# Altium footprint library 接插件.PcbLib: 91 footprints (part 4 of 6)
Each footprint in its own frame and in the unit in brackets; x right, y up, seen from the top. Pads: shape width x height; smd on the part's side, far side on the other; paste and mask are expansions set on the pad; w line width, h text height; cw(c..) or ccw(c..) is an arc to the next point about the centre after c.
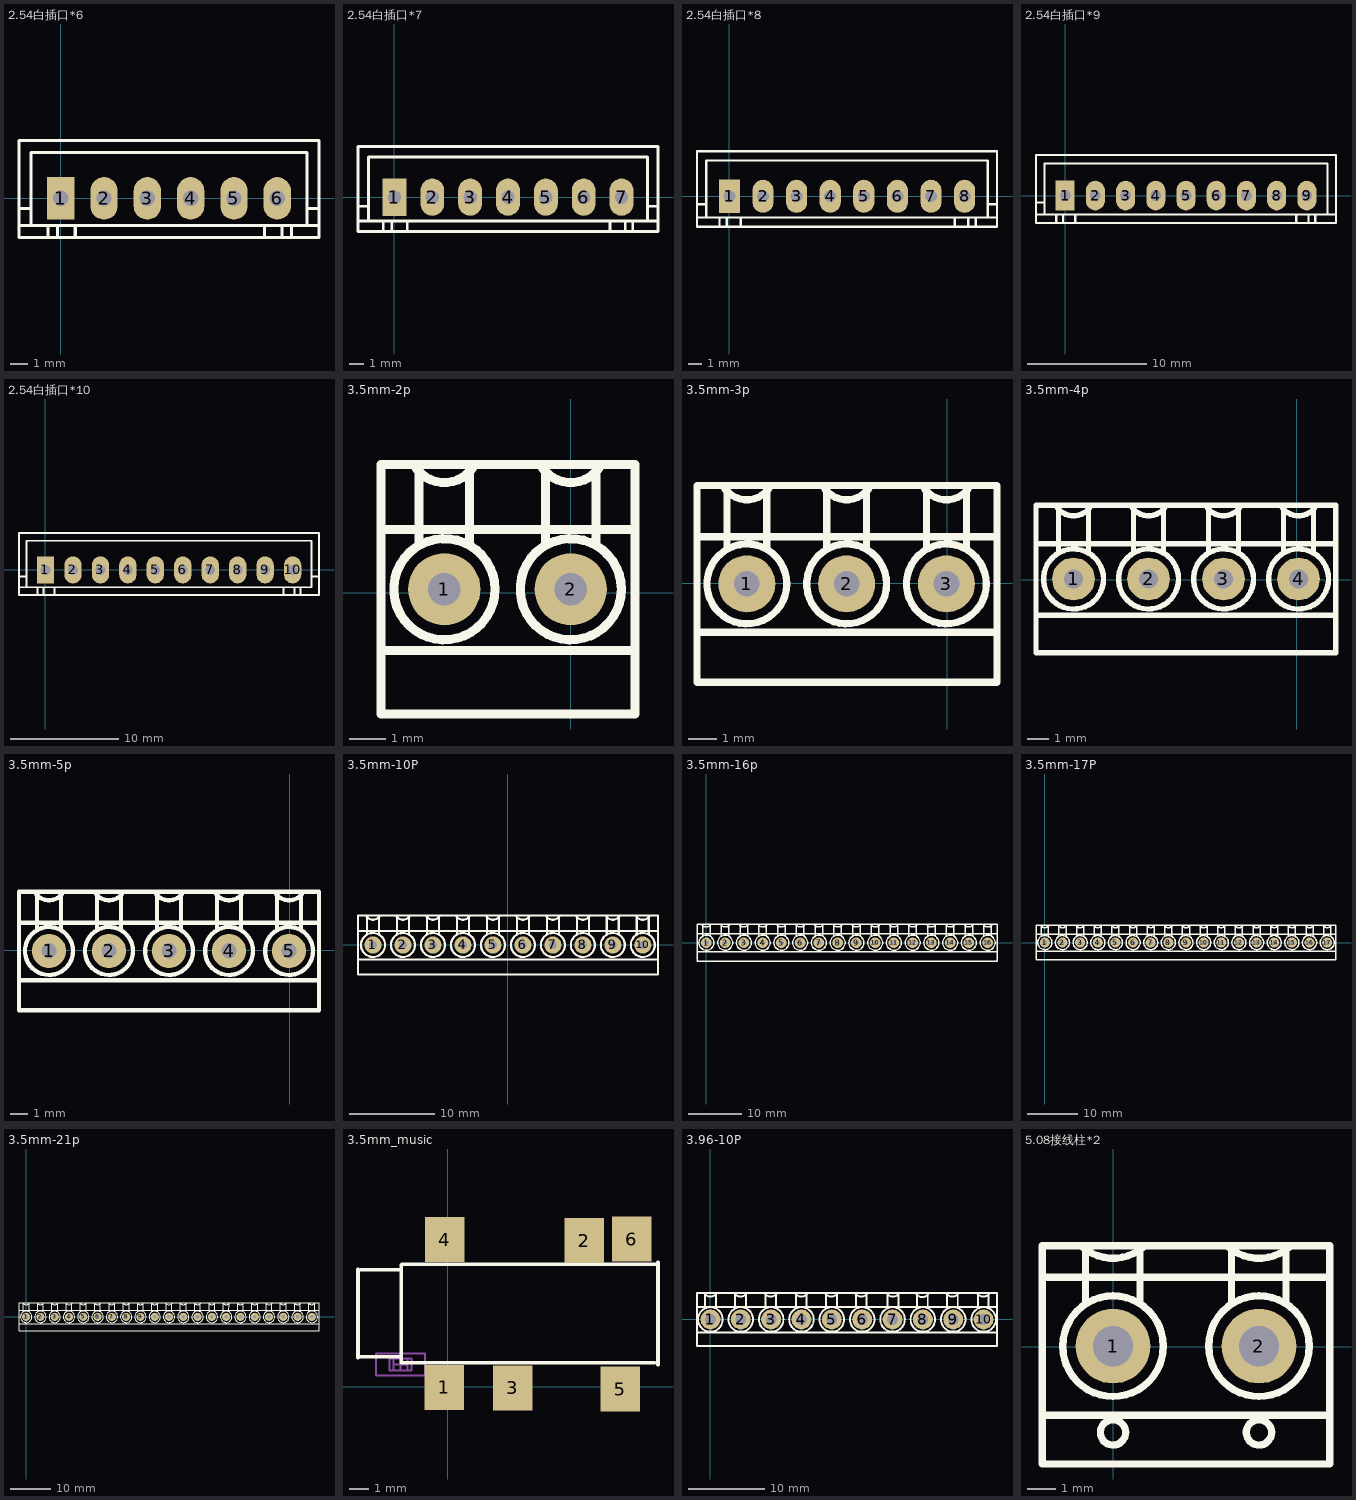
[diagram p3: the footprints below, top view; thin cyan lines are the x and y axes]

## 2.54白插口*6 [mm]
pads (6):
  rect 1.6x2.5 hole 0.9: 1(0,0)
  oval 1.6x2.5 hole 0.9: 2(2.54,0) 3(5.08,0) 4(7.62,0) 5(10.16,0) 6(12.7,0)
Top Overlay:
  lines w0.178: -2.45,-1.6 -1.75,-1.6 ; -2.45,-0.6 -1.75,-0.6 ; -2.45,3.4 -2.45,-2.3 15.15,-2.3 15.15,3.4 -2.44,3.4 ; -0.75,-2.3 -0.75,-1.6 ; -0.19,-2.29 -0.19,-1.6 ; 0.85,-2.3 0.85,-1.6 ; 11.95,-2.3 11.95,-1.6 ; 12.98,-2.3 12.98,-1.6 ; 13.55,-2.3 13.55,-1.6 ; 14.45,-0.6 15.15,-0.6 ; 15.15,-1.6 14.45,-1.6 ; -1.75,-1.6 -1.75,2.7 14.45,2.7 14.45,-1.6 ; -1.75,-1.6 14.45,-1.6

## 2.54白插口*7 [mm]
pads (7):
  rect 1.6x2.5 hole 0.9: 1(0,0)
  oval 1.6x2.5 hole 0.9: 2(2.54,0) 3(5.08,0) 4(7.62,0) 5(10.16,0) 6(12.7,0) 7(15.24,0)
Top Overlay:
  lines w0.178: -2.45,-1.6 -1.75,-1.6 ; -2.45,-0.6 -1.75,-0.6 ; -2.45,3.4 -2.45,-2.3 17.69,-2.3 17.69,3.4 -2.44,3.4 ; -0.75,-2.3 -0.75,-1.6 ; -0.19,-2.29 -0.19,-1.6 ; 0.85,-2.3 0.85,-1.6 ; 14.47,-2.3 14.47,-1.6 ; 15.49,-2.3 15.49,-1.6 ; 16,-2.3 16,-1.6 ; 16.98,-1.6 17.68,-1.6 ; 16.99,-0.6 17.69,-0.6 ; -1.75,-1.6 16.99,-1.6 16.99,2.7 -1.75,2.7 -1.75,-1.6

## 2.54白插口*8 [mm]
pads (8):
  rect 1.6x2.5 hole 0.9: 1(0,0)
  oval 1.6x2.5 hole 0.9: 2(2.54,0) 3(5.08,0) 4(7.62,0) 5(10.16,0) 6(12.7,0) 7(15.24,0) 8(17.78,0)
Top Overlay:
  lines w0.178: -2.45,-1.6 -1.75,-1.6 ; -2.45,-0.6 -1.75,-0.6 ; -2.45,3.4 -2.45,-2.3 20.23,-2.3 20.23,3.4 -2.44,3.4 ; -0.75,-2.3 -0.75,-1.6 ; -0.19,-2.29 -0.19,-1.6 ; 0.85,-2.3 0.85,-1.6 ; 17.03,-2.3 17.03,-1.6 ; 18.06,-2.3 18.06,-1.6 ; 18.63,-2.3 18.63,-1.6 ; 19.53,-0.6 20.23,-0.6 ; 20.23,-1.6 19.53,-1.6 ; -1.75,-1.6 19.53,-1.6 ; -1.75,-1.6 -1.75,2.7 19.53,2.7 19.53,-1.6

## 2.54白插口*9 [mm]
pads (9):
  rect 1.6x2.5 hole 0.9: 1(0,0)
  oval 1.6x2.5 hole 0.9: 2(2.54,0) 3(5.08,0) 4(7.62,0) 5(10.16,0) 6(12.7,0) 7(15.24,0) 8(17.78,0) 9(20.32,0)
Top Overlay:
  lines w0.178: -2.45,-1.6 -1.75,-1.6 ; -2.45,-0.6 -1.75,-0.6 ; -2.45,3.4 -2.45,-2.3 22.77,-2.3 22.77,3.4 -2.44,3.4 ; -0.75,-2.3 -0.75,-1.6 ; -0.19,-2.29 -0.19,-1.6 ; 0.85,-2.3 0.85,-1.6 ; 19.43,-2.3 19.43,-1.6 ; 20.46,-2.3 20.46,-1.6 ; 21.03,-2.3 21.03,-1.6 ; 22.07,-1.6 22.07,2.7 -1.75,2.7 -1.75,-1.6 ; 22.77,-1.6 19.53,-1.6 -1.75,-1.6

## 2.54白插口*10 [mm]
pads (10):
  rect 1.6x2.5 hole 0.9: 1(0,0)
  oval 1.6x2.5 hole 0.9: 2(2.54,0) 3(5.08,0) 4(7.62,0) 5(10.16,0) 6(12.7,0) 7(15.24,0) 8(17.78,0) 9(20.32,0) 10(22.86,0)
Top Overlay:
  lines w0.178: -2.45,-1.6 -1.75,-1.6 ; -2.45,-0.6 -1.75,-0.6 ; -2.45,3.4 -2.45,-2.3 25.3,-2.3 25.3,3.4 -2.44,3.4 ; -0.75,-2.3 -0.75,-1.6 ; -0.19,-2.29 -0.19,-1.6 ; 0.85,-2.3 0.85,-1.6 ; 22,-2.3 22,-1.6 ; 23.03,-2.3 23.03,-1.6 ; 23.6,-2.3 23.6,-1.6 ; 24.6,-0.6 25.3,-0.6 ; -1.75,-1.6 -1.75,2.7 24.6,2.7 24.6,-1.6 -1.75,-1.6

## 3.5mm-2p [mm]
pads (2):
  round 2 hole 0.9: 1(-3.505,0.102) 2(-0.005,0.102)
Top Overlay:
  circle w0.254: c-0.005,0.102 r1.4
  circle w0.254: c-3.505,0.102 r1.4
  circle w0.254: c-0.005,0.102 r1.4
  lines w0.254: -5.255,-1.598 1.769,-1.598 ; -5.255,1.752 1.727,1.752 ; -4.333,3.536 ccw(c-3.505,4.002) -2.677,3.536 ; -4.205,1.352 -4.205,3.552 ; -2.805,1.352 -2.805,3.552 ; 1.769,-3.353 1.769,3.547 ; 1.769,-3.348 -5.255,-3.348 -5.255,3.552 1.769,3.552 ; -0.833,3.536 ccw(c-0.005,4.002) 0.823,3.536 cw(c-0.005,4.002) -0.833,3.536 ; -0.705,1.352 -0.705,3.552 -0.705,1.352 ; 0.695,1.352 0.695,3.552 0.695,1.352

## 3.5mm-3p [mm]
pads (3):
  round 2 hole 0.9: 1(-7.036,-0.025) 2(-3.536,-0.025) 3(-0.036,-0.025)
Top Overlay:
  circle w0.254: c-0.036,-0.025 r1.4
  circle w0.254: c-3.536,-0.025 r1.4
  circle w0.254: c-7.036,-0.025 r1.4
  circle w0.254: c-0.036,-0.025 r1.4
  lines w0.254: -8.786,-1.725 1.702,-1.725 ; -8.786,1.625 1.738,1.625 ; -7.864,3.409 ccw(c-7.036,3.875) -6.208,3.409 ; -7.736,1.225 -7.736,3.425 ; -6.336,1.225 -6.336,3.425 ; -4.364,3.409 ccw(c-3.536,3.875) -2.708,3.409 ; -4.236,1.225 -4.236,3.425 ; -2.836,1.225 -2.836,3.425 ; 1.738,-3.48 1.738,3.42 ; 1.738,-3.475 -8.786,-3.475 -8.786,3.425 1.738,3.425 ; -0.864,3.409 ccw(c-0.036,3.875) 0.792,3.409 cw(c-0.036,3.875) -0.864,3.409 ; -0.736,1.225 -0.736,3.425 -0.736,1.225 ; 0.664,1.225 0.664,3.425 0.664,1.225

## 3.5mm-4p [mm]
pads (4):
  round 2 hole 0.9: 1(-10.414,0.025) 2(-6.914,0.025) 3(-3.414,0.025) 4(0.086,0.025)
Top Overlay:
  circle w0.254: c-3.414,0.025 r1.4
  circle w0.254: c0.086,0.025 r1.4
  circle w0.254: c-6.914,0.025 r1.4
  circle w0.254: c-10.414,0.025 r1.4
  lines w0.254: -12.164,-1.675 1.836,-1.675 ; -12.164,1.675 1.836,1.675 ; -11.242,3.46 ccw(c-10.414,3.925) -9.586,3.46 ; -11.114,1.275 -11.114,3.475 ; -9.714,1.275 -9.714,3.475 ; -7.742,3.46 ccw(c-6.914,3.925) -6.086,3.46 ; -7.614,1.275 -7.614,3.475 ; -6.214,1.275 -6.214,3.475 ; -4.242,3.46 ccw(c-3.414,3.925) -2.586,3.46 ; -4.114,1.275 -4.114,3.475 ; -2.714,1.275 -2.714,3.475 ; -0.742,3.46 ccw(c0.086,3.925) 0.914,3.46 ; -0.614,1.275 -0.614,3.475 ; 0.786,1.275 0.786,3.475 ; 1.829,-3.425 1.829,3.475 ; 1.836,-3.425 -12.164,-3.425 -12.164,3.475 1.836,3.475

## 3.5mm-5p [mm]
pads (5):
  round 2 hole 0.9: 1(-14.046,-0.051) 2(-10.546,-0.051) 3(-7.046,-0.051) 4(-3.546,-0.051) 5(-0.046,-0.051)
Top Overlay:
  circle w0.254: c-0.046,-0.051 r1.4
  circle w0.254: c-7.046,-0.051 r1.4
  circle w0.254: c-3.546,-0.051 r1.4
  circle w0.254: c-10.546,-0.051 r1.4
  circle w0.254: c-14.046,-0.051 r1.4
  lines w0.254: -15.796,-1.751 -1.796,-1.751 ; -15.796,1.599 -1.796,1.599 1.702,1.599 ; -14.874,3.383 ccw(c-14.046,3.849) -13.218,3.383 ; -14.746,1.199 -14.746,3.399 ; -13.346,1.199 -13.346,3.399 ; -11.374,3.383 ccw(c-10.546,3.849) -9.718,3.383 ; -11.246,1.199 -11.246,3.399 ; -9.846,1.199 -9.846,3.399 ; -7.874,3.383 ccw(c-7.046,3.849) -6.218,3.383 ; -7.746,1.199 -7.746,3.399 ; -6.346,1.199 -6.346,3.399 ; -4.374,3.383 ccw(c-3.546,3.849) -2.718,3.383 ; -4.246,1.199 -4.246,3.399 ; -2.846,1.199 -2.846,3.399 ; -2.046,-1.751 1.702,-1.751 ; -2.046,3.399 1.702,3.399 1.702,-3.505 ; -1.796,3.399 -15.796,3.399 -15.796,-3.501 -1.796,-3.501 1.702,-3.501 ; -0.874,3.383 ccw(c-0.046,3.849) 0.782,3.383 ; -0.746,1.199 -0.746,3.399 ; 0.654,1.199 0.654,3.399

## 3.5mm-10P [mm]
pads (10):
  round 2 hole 0.9: 1(-15.748,-0.025) 2(-12.248,-0.025) 3(-8.748,-0.025) 4(-5.248,-0.025) 5(-1.748,-0.025) 6(1.752,-0.025) 7(5.252,-0.025) 8(8.752,-0.025) 9(12.252,-0.025) 10(15.752,-0.025)
Top Overlay:
  circle w0.254: c1.752,-0.025 r1.4
  circle w0.254: c-1.748,-0.025 r1.4
  circle w0.254: c-8.748,-0.025 r1.4
  circle w0.254: c-5.248,-0.025 r1.4
  circle w0.254: c5.252,-0.025 r1.4
  circle w0.254: c8.752,-0.025 r1.4
  circle w0.254: c12.252,-0.025 r1.4
  circle w0.254: c-12.248,-0.025 r1.4
  circle w0.254: c-15.748,-0.025 r1.4
  circle w0.254: c15.752,-0.025 r1.4
  lines w0.254: -17.498,-1.725 -3.498,-1.725 ; -17.498,1.625 -3.498,1.625 3.502,1.625 17.502,1.625 ; -16.576,3.409 ccw(c-15.748,3.875) -14.92,3.409 ; -16.448,1.225 -16.448,3.425 ; -15.048,1.225 -15.048,3.425 ; -13.076,3.409 ccw(c-12.248,3.875) -11.42,3.409 ; -12.948,1.225 -12.948,3.425 ; -11.548,1.225 -11.548,3.425 ; -9.576,3.409 ccw(c-8.748,3.875) -7.92,3.409 ; -9.448,1.225 -9.448,3.425 ; -8.048,1.225 -8.048,3.425 ; -6.076,3.409 ccw(c-5.248,3.875) -4.42,3.409 ; -5.948,1.225 -5.948,3.425 ; -4.548,1.225 -4.548,3.425 ; -3.748,-1.725 3.502,-1.725 17.502,-1.725 ; -3.748,3.425 3.502,3.425 17.502,3.425 ; -3.498,3.425 -17.498,3.425 -17.498,-3.475 -3.498,-3.475 3.502,-3.475 17.502,-3.475 ; -2.576,3.409 ccw(c-1.748,3.875) -0.92,3.409 ; -2.448,1.225 -2.448,3.425 ; -1.048,1.225 -1.048,3.425 ; 0.924,3.409 ccw(c1.752,3.875) 2.58,3.409 ; 1.052,1.225 1.052,3.425 ; 2.452,1.225 2.452,3.425 ; 4.424,3.409 ccw(c5.252,3.875) 6.08,3.409 ; 4.552,1.225 4.552,3.425 ; 5.952,1.225 5.952,3.425 ; 7.924,3.409 ccw(c8.752,3.875) 9.58,3.409 ; 8.052,1.225 8.052,3.425 ; 9.452,1.225 9.452,3.425 ; 11.424,3.409 ccw(c12.252,3.875) 13.08,3.409 ; 11.552,1.225 11.552,3.425 ; 12.952,1.225 12.952,3.425 ; 14.924,3.409 ccw(c15.752,3.875) 16.58,3.409 ; 15.052,1.225 15.052,3.425 ; 16.452,1.225 16.452,3.425 ; 17.526,-3.48 17.526,3.42

## 3.5mm-16p [mm]
pads (16):
  round 2 hole 0.9: 1(0,0) 2(3.5,0) 3(7,0) 4(10.5,0) 5(14,0) 6(17.5,0) 7(21,0) 8(24.5,0) 9(28,0) 10(31.5,0) 11(35,0) 12(38.5,0) 13(42,0) 14(45.5,0) 15(49,0) 16(52.5,0)
Top Overlay:
  circle w0.254: c45.5,0 r1.4
  circle w0.254: c49,0 r1.4
  circle w0.254: c42,0 r1.4
  circle w0.254: c52.5,0 r1.4
  circle w0.254: c38.5,0 r1.4
  circle w0.254: c35,0 r1.4
  circle w0.254: c24.5,0 r1.4
  circle w0.254: c28,0 r1.4
  circle w0.254: c21,0 r1.4
  circle w0.254: c31.5,0 r1.4
  circle w0.254: c10.5,0 r1.4
  circle w0.254: c0,0 r1.4
  circle w0.254: c7,0 r1.4
  circle w0.254: c3.5,0 r1.4
  circle w0.254: c14,0 r1.4
  circle w0.254: c17.5,0 r1.4
  lines w0.254: -1.75,-1.7 12.25,-1.7 ; -1.75,1.65 12.25,1.65 19.25,1.65 33.25,1.65 40.25,1.65 54.25,1.65 ; -0.828,3.434 ccw(c0,3.9) 0.828,3.434 ; -0.7,1.25 -0.7,3.45 ; 0.7,1.25 0.7,3.45 ; 2.672,3.434 ccw(c3.5,3.9) 4.328,3.434 ; 2.8,1.25 2.8,3.45 ; 4.2,1.25 4.2,3.45 ; 6.172,3.434 ccw(c7,3.9) 7.828,3.434 ; 6.3,1.25 6.3,3.45 ; 7.7,1.25 7.7,3.45 ; 9.672,3.434 ccw(c10.5,3.9) 11.328,3.434 ; 9.8,1.25 9.8,3.45 ; 11.2,1.25 11.2,3.45 ; 12,-1.7 19.25,-1.7 33.25,-1.7 ; 12,3.45 19.25,3.45 33.25,3.45 ; 12.25,3.45 -1.75,3.45 -1.75,-3.45 12.25,-3.45 19.25,-3.45 33.25,-3.45 40.25,-3.45 54.25,-3.45 54.25,3.45 40.25,3.45 33,3.45 ; 13.172,3.434 ccw(c14,3.9) 14.828,3.434 ; 13.3,1.25 13.3,3.45 ; 14.7,1.25 14.7,3.45 ; 16.672,3.434 ccw(c17.5,3.9) 18.328,3.434 ; 16.8,1.25 16.8,3.45 ; 18.2,1.25 18.2,3.45 ; 20.172,3.434 ccw(c21,3.9) 21.828,3.434 ; 20.3,1.25 20.3,3.45 ; 21.7,1.25 21.7,3.45 ; 23.672,3.434 ccw(c24.5,3.9) 25.328,3.434 ; 23.8,1.25 23.8,3.45 ; 25.2,1.25 25.2,3.45 ; 27.172,3.434 ccw(c28,3.9) 28.828,3.434 ; 27.3,1.25 27.3,3.45 ; 28.7,1.25 28.7,3.45 ; 30.672,3.434 ccw(c31.5,3.9) 32.328,3.434 ; 30.8,1.25 30.8,3.45 ; 32.2,1.25 32.2,3.45 ; 33,-1.7 40.25,-1.7 54.25,-1.7 ; 34.172,3.434 ccw(c35,3.9) 35.828,3.434 ; 34.3,1.25 34.3,3.45 ; 35.7,1.25 35.7,3.45 ; 37.672,3.434 ccw(c38.5,3.9) 39.328,3.434 ; 37.8,1.25 37.8,3.45 ; 39.2,1.25 39.2,3.45 ; 41.172,3.434 ccw(c42,3.9) 42.828,3.434 ; 41.3,1.25 41.3,3.45 ; 42.7,1.25 42.7,3.45 ; 44.672,3.434 ccw(c45.5,3.9) 46.328,3.434 ; 44.8,1.25 44.8,3.45 ; 46.2,1.25 46.2,3.45 ; 48.172,3.434 ccw(c49,3.9) 49.828,3.434 ; 48.3,1.25 48.3,3.45 ; 49.7,1.25 49.7,3.45 ; 51.672,3.434 ccw(c52.5,3.9) 53.328,3.434 ; 51.8,1.25 51.8,3.45 ; 53.2,1.25 53.2,3.45

## 3.5mm-17P [mm]
pads (17):
  round 2 hole 0.9: 1(0,0) 2(3.5,0) 3(7,0) 4(10.5,0) 5(14,0) 6(17.5,0) 7(21,0) 8(24.5,0) 9(28,0) 10(31.5,0) 11(35,0) 12(38.5,0) 13(42,0) 14(45.5,0) 15(49,0) 16(52.5,0) 17(56,0)
Top Overlay:
  circle w0.254: c56,0 r1.4
  circle w0.254: c45.5,0 r1.4
  circle w0.254: c49,0 r1.4
  circle w0.254: c42,0 r1.4
  circle w0.254: c52.5,0 r1.4
  circle w0.254: c38.5,0 r1.4
  circle w0.254: c35,0 r1.4
  circle w0.254: c24.5,0 r1.4
  circle w0.254: c28,0 r1.4
  circle w0.254: c21,0 r1.4
  circle w0.254: c31.5,0 r1.4
  circle w0.254: c10.5,0 r1.4
  circle w0.254: c0,0 r1.4
  circle w0.254: c7,0 r1.4
  circle w0.254: c3.5,0 r1.4
  circle w0.254: c14,0 r1.4
  circle w0.254: c17.5,0 r1.4
  lines w0.254: -1.75,-1.7 12.25,-1.7 ; -1.75,1.65 12.25,1.65 19.25,1.65 33.25,1.65 40.25,1.65 54.25,1.65 57.75,1.65 ; -0.828,3.434 ccw(c0,3.9) 0.828,3.434 ; -0.7,1.25 -0.7,3.45 ; 0.7,1.25 0.7,3.45 ; 2.672,3.434 ccw(c3.5,3.9) 4.328,3.434 ; 2.8,1.25 2.8,3.45 ; 4.2,1.25 4.2,3.45 ; 6.172,3.434 ccw(c7,3.9) 7.828,3.434 ; 6.3,1.25 6.3,3.45 ; 7.7,1.25 7.7,3.45 ; 9.672,3.434 ccw(c10.5,3.9) 11.328,3.434 ; 9.8,1.25 9.8,3.45 ; 11.2,1.25 11.2,3.45 ; 12,-1.7 19.25,-1.7 33.25,-1.7 ; 12,3.45 19.25,3.45 33.25,3.45 ; 12.25,3.45 -1.75,3.45 -1.75,-3.45 12.25,-3.45 19.25,-3.45 33.25,-3.45 40.25,-3.45 54.25,-3.45 57.75,-3.45 57.75,3.45 54,3.45 ; 13.172,3.434 ccw(c14,3.9) 14.828,3.434 ; 13.3,1.25 13.3,3.45 ; 14.7,1.25 14.7,3.45 ; 16.672,3.434 ccw(c17.5,3.9) 18.328,3.434 ; 16.8,1.25 16.8,3.45 ; 18.2,1.25 18.2,3.45 ; 20.172,3.434 ccw(c21,3.9) 21.828,3.434 ; 20.3,1.25 20.3,3.45 ; 21.7,1.25 21.7,3.45 ; 23.672,3.434 ccw(c24.5,3.9) 25.328,3.434 ; 23.8,1.25 23.8,3.45 ; 25.2,1.25 25.2,3.45 ; 27.172,3.434 ccw(c28,3.9) 28.828,3.434 ; 27.3,1.25 27.3,3.45 ; 28.7,1.25 28.7,3.45 ; 30.672,3.434 ccw(c31.5,3.9) 32.328,3.434 ; 30.8,1.25 30.8,3.45 ; 32.2,1.25 32.2,3.45 ; 33,-1.7 40.25,-1.7 54.25,-1.7 ; 33,3.45 40.25,3.45 54.25,3.45 ; 34.172,3.434 ccw(c35,3.9) 35.828,3.434 ; 34.3,1.25 34.3,3.45 ; 35.7,1.25 35.7,3.45 ; 37.672,3.434 ccw(c38.5,3.9) 39.328,3.434 ; 37.8,1.25 37.8,3.45 ; 39.2,1.25 39.2,3.45 ; 41.172,3.434 ccw(c42,3.9) 42.828,3.434 ; 41.3,1.25 41.3,3.45 ; 42.7,1.25 42.7,3.45 ; 44.672,3.434 ccw(c45.5,3.9) 46.328,3.434 ; 44.8,1.25 44.8,3.45 ; 46.2,1.25 46.2,3.45 ; 48.172,3.434 ccw(c49,3.9) 49.828,3.434 ; 48.3,1.25 48.3,3.45 ; 49.7,1.25 49.7,3.45 ; 51.672,3.434 ccw(c52.5,3.9) 53.328,3.434 ; 51.8,1.25 51.8,3.45 ; 53.2,1.25 53.2,3.45 ; 54,-1.7 57.75,-1.7 ; 55.172,3.434 ccw(c56,3.9) 56.828,3.434 ; 55.3,1.25 55.3,3.45 ; 56.7,1.25 56.7,3.45

## 3.5mm-21p [mm]
pads (21):
  round 2 hole 0.9: 1(0,0) 2(3.5,0) 3(7,0) 4(10.5,0) 5(14,0) 6(17.5,0) 7(21,0) 8(24.5,0) 9(28,0) 10(31.5,0) 11(35,0) 12(38.5,0) 13(42,0) 14(45.5,0) 15(49,0) 16(52.5,0) 17(56,0) 18(59.5,0) 19(63,0) 20(66.5,0) 21(70,0)
Top Overlay:
  circle w0.254: c17.5,0 r1.4
  circle w0.254: c14,0 r1.4
  circle w0.254: c3.5,0 r1.4
  circle w0.254: c7,0 r1.4
  circle w0.254: c0,0 r1.4
  circle w0.254: c10.5,0 r1.4
  circle w0.254: c31.5,0 r1.4
  circle w0.254: c21,0 r1.4
  circle w0.254: c28,0 r1.4
  circle w0.254: c24.5,0 r1.4
  circle w0.254: c35,0 r1.4
  circle w0.254: c38.5,0 r1.4
  circle w0.254: c52.5,0 r1.4
  circle w0.254: c42,0 r1.4
  circle w0.254: c49,0 r1.4
  circle w0.254: c45.5,0 r1.4
  circle w0.254: c56,0 r1.4
  circle w0.254: c59.5,0 r1.4
  circle w0.254: c70,0 r1.4
  circle w0.254: c63,0 r1.4
  circle w0.254: c66.5,0 r1.4
  lines w0.254: -1.75,-1.7 12.25,-1.7 ; -1.75,1.65 12.25,1.65 19.25,1.65 33.25,1.65 40.25,1.65 54.25,1.65 61.25,1.65 71.75,1.65 ; -0.828,3.434 ccw(c0,3.9) 0.828,3.434 ; -0.7,1.25 -0.7,3.45 ; 0.7,1.25 0.7,3.45 ; 2.672,3.434 ccw(c3.5,3.9) 4.328,3.434 ; 2.8,1.25 2.8,3.45 ; 4.2,1.25 4.2,3.45 ; 6.172,3.434 ccw(c7,3.9) 7.828,3.434 ; 6.3,1.25 6.3,3.45 ; 7.7,1.25 7.7,3.45 ; 9.672,3.434 ccw(c10.5,3.9) 11.328,3.434 ; 9.8,1.25 9.8,3.45 ; 11.2,1.25 11.2,3.45 ; 12,-1.7 19.25,-1.7 33.25,-1.7 ; 12,3.45 19.25,3.45 33.25,3.45 ; 12.25,3.45 -1.75,3.45 -1.75,-3.45 12.25,-3.45 19.25,-3.45 33.25,-3.45 40.25,-3.45 54.25,-3.45 61.25,-3.45 71.75,-3.45 71.75,3.45 61.25,3.45 54,3.45 ; 13.172,3.434 ccw(c14,3.9) 14.828,3.434 ; 13.3,1.25 13.3,3.45 ; 14.7,1.25 14.7,3.45 ; 16.672,3.434 ccw(c17.5,3.9) 18.328,3.434 ; 16.8,1.25 16.8,3.45 ; 18.2,1.25 18.2,3.45 ; 20.172,3.434 ccw(c21,3.9) 21.828,3.434 ; 20.3,1.25 20.3,3.45 ; 21.7,1.25 21.7,3.45 ; 23.672,3.434 ccw(c24.5,3.9) 25.328,3.434 ; 23.8,1.25 23.8,3.45 ; 25.2,1.25 25.2,3.45 ; 27.172,3.434 ccw(c28,3.9) 28.828,3.434 ; 27.3,1.25 27.3,3.45 ; 28.7,1.25 28.7,3.45 ; 30.672,3.434 ccw(c31.5,3.9) 32.328,3.434 ; 30.8,1.25 30.8,3.45 ; 32.2,1.25 32.2,3.45 ; 33,-1.7 40.25,-1.7 54.25,-1.7 ; 33,3.45 40.25,3.45 54.25,3.45 ; 34.172,3.434 ccw(c35,3.9) 35.828,3.434 ; 34.3,1.25 34.3,3.45 ; 35.7,1.25 35.7,3.45 ; 37.672,3.434 ccw(c38.5,3.9) 39.328,3.434 ; 37.8,1.25 37.8,3.45 ; 39.2,1.25 39.2,3.45 ; 41.172,3.434 ccw(c42,3.9) 42.828,3.434 ; 41.3,1.25 41.3,3.45 ; 42.7,1.25 42.7,3.45 ; 44.672,3.434 ccw(c45.5,3.9) 46.328,3.434 ; 44.8,1.25 44.8,3.45 ; 46.2,1.25 46.2,3.45 ; 48.172,3.434 ccw(c49,3.9) 49.828,3.434 ; 48.3,1.25 48.3,3.45 ; 49.7,1.25 49.7,3.45 ; 51.672,3.434 ccw(c52.5,3.9) 53.328,3.434 ; 51.8,1.25 51.8,3.45 ; 53.2,1.25 53.2,3.45 ; 54,-1.7 61.25,-1.7 71.75,-1.7 ; 55.172,3.434 ccw(c56,3.9) 56.828,3.434 ; 55.3,1.25 55.3,3.45 ; 56.7,1.25 56.7,3.45 ; 58.672,3.434 ccw(c59.5,3.9) 60.328,3.434 ; 58.8,1.25 58.8,3.45 ; 60.2,1.25 60.2,3.45 ; 62.172,3.434 ccw(c63,3.9) 63.828,3.434 ; 62.3,1.25 62.3,3.45 ; 63.7,1.25 63.7,3.45 ; 65.672,3.434 ccw(c66.5,3.9) 67.328,3.434 ; 65.8,1.25 65.8,3.45 ; 67.2,1.25 67.2,3.45 ; 69.172,3.434 ccw(c70,3.9) 70.828,3.434 ; 69.3,1.25 69.3,3.45 ; 70.7,1.25 70.7,3.45

## 3.5mm_music [mm]
pads (6):
  rect 2x2.3 smd: 1(-0.173,-0.026) 2(6.913,7.416) 3(3.281,-0.052) 4(-0.148,7.467) 5(8.742,-0.103) 6(9.326,7.492)
Top Overlay:
  lines w0.178: -4.542,1.468 -4.542,5.968 ; -4.466,1.523 -2.466,1.523 ; -4.415,5.943 -2.415,5.943 ; -2.358,1.232 -2.358,6.197 ; -2.343,1.218 10.495,1.218 ; -2.332,6.222 10.596,6.222 ; 10.647,1.117 10.647,6.317
Mechanical 5:
  lines w0.1: -3.642,0.588 -1.142,0.588 -1.142,1.688 -3.642,1.688 -3.642,0.588
  text ".Designator" at -3.51,0.833 h0.61
Mechanical 13:
  lines w0.1: -2.742,0.838 -2.742,1.438 ; -2.042,0.838 -2.042,1.438 ; -2.942,0.838 -2.942,1.438 -1.842,1.438 -1.842,0.838 -2.942,0.838
Mechanical 15:
  lines w0.1: -2.692,1.138 -2.092,1.138 ; -2.392,0.838 -2.392,1.438 ; -3.642,0.588 -3.642,1.688 -1.142,1.688 -1.142,0.588 -3.642,0.588

## 3.96-10P [mm]
pads (10):
  round 2.6 hole 1.4: 1(0,0) 2(3.96,0) 3(7.92,0) 4(11.88,0) 5(15.84,0) 6(19.8,0) 7(23.76,0) 8(27.72,0) 9(31.68,0) 10(35.64,0)
Top Overlay:
  circle w0.254: c31.68,0 r1.6
  circle w0.254: c27.72,0 r1.6
  circle w0.254: c23.76,0 r1.6
  circle w0.254: c7.92,0 r1.6
  circle w0.254: c3.96,0 r1.6
  circle w0.254: c19.8,0 r1.6
  circle w0.254: c15.84,0 r1.6
  circle w0.254: c35.64,0 r1.6
  circle w0.254: c0,0 r1.6
  circle w0.254: c11.88,0 r1.6
  lines w0.254: -1.75,-1.7 37.389,-1.7 ; -1.75,1.65 37.389,1.65 ; -0.828,3.45 ccw(c0,3.916) 0.828,3.45 ; -0.7,1.575 -0.7,3.45 ; 0.7,1.499 0.7,3.45 ; 3.104,3.45 ccw(c3.932,3.916) 4.76,3.45 ; 3.232,1.422 3.232,3.45 ; 4.632,1.524 4.632,3.45 ; 7.041,3.45 ccw(c7.869,3.916) 8.697,3.45 ; 7.169,1.473 7.169,3.45 ; 8.569,1.499 8.569,3.45 ; 11.029,3.45 ccw(c11.857,3.916) 12.685,3.45 ; 11.157,1.473 11.157,3.45 ; 12,3.45 37.39,3.45 37.39,-3.45 12.25,-3.45 -1.75,-3.45 -1.75,3.45 12.25,3.45 ; 12.557,1.524 12.557,3.45 ; 14.94,3.45 ccw(c15.768,3.916) 16.596,3.45 ; 15.068,1.549 15.068,3.45 ; 16.494,1.524 16.494,3.45 ; 18.852,3.45 ccw(c19.68,3.916) 20.508,3.45 ; 18.98,1.549 18.98,3.45 ; 20.38,1.549 20.38,3.45 ; 22.992,3.45 ccw(c23.82,3.916) 24.648,3.45 ; 23.12,1.499 23.12,3.45 ; 24.52,1.448 24.52,3.45 ; 26.827,3.409 ccw(c27.655,3.875) 28.483,3.409 ; 26.955,1.448 26.955,3.425 ; 28.355,1.575 28.355,3.425 ; 30.739,3.45 ccw(c31.567,3.916) 32.395,3.45 ; 30.867,1.372 30.867,3.45 ; 32.267,1.473 32.267,3.45 ; 34.778,3.45 ccw(c35.606,3.916) 36.434,3.45 ; 34.906,1.473 34.906,3.45 ; 36.306,1.499 36.306,3.45

## 5.08接线柱*2 [mm]
pads (2):
  round 2.6 hole 1.4: 1(0,0.025) 2(5.08,0.025)
Top Overlay:
  circle w0.254: c0,0.025 r1.75
  circle w0.254: c5.08,0.025 r1.75
  circle w0.254: c0,-2.975 r0.44
  circle w0.254: c5.08,-2.975 r0.44
  lines w0.254: -2.46,-2.375 7.54,-2.375 ; -2.46,2.425 7.54,2.425 ; -1.086,3.496 ccw(c0,4.725) 1.074,3.486 ; -0.96,1.525 -0.96,3.525 ; 0.94,1.525 0.94,3.525 ; 3.994,3.496 ccw(c5.08,4.725) 6.154,3.486 ; 4.12,1.525 4.12,3.525 ; 6.02,1.525 6.02,3.525 ; -2.46,-4.075 -2.46,3.525 7.54,3.525 7.54,-4.075 -2.46,-4.075